# EAGLE library part LIS2HH12TR (library circuit_tree)
IC
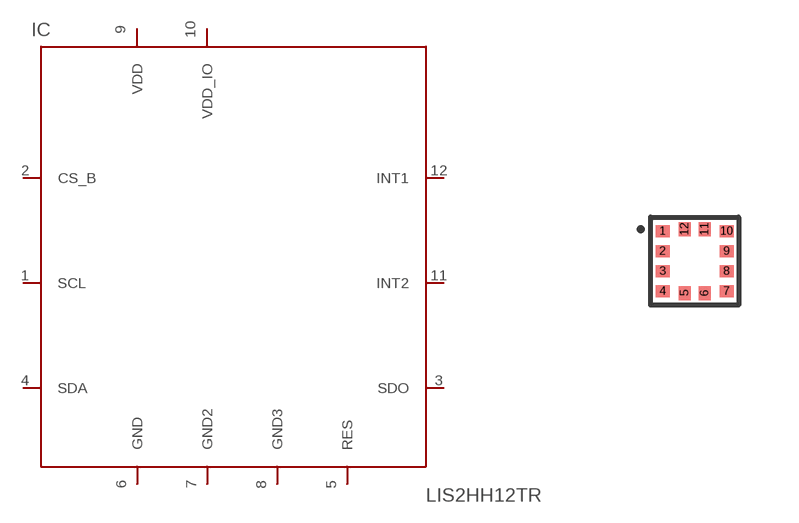
[diagram p0: symbol with the pads of LGA-12; footprint LGA-12]

Designator prefix IC

## LIS2HH12TR  [LGA-12]
1  SCL  pas
2  CS_B  pas
3  SDO  pas
4  SDA  pas
5  RES  pas
6  GND  pas
7  GND2  pas
8  GND3  pas
9  VDD  pas
10  VDD_IO  pas
11  INT2  pas
12  INT1  pas

## Footprint LGA-12 (pad centres in mm)
smd 0.35 x 0.3: 1 -0.8,0.75; 2 -0.8,0.25; 3 -0.8,-0.25; 4 -0.8,-0.75; 7 0.8,-0.75; 8 0.8,-0.25; 9 0.8,0.25; 10 0.8,0.75
smd 0.3 x 0.35: 5 -0.25,-0.8; 6 0.25,-0.8; 11 0.25,0.8; 12 -0.25,0.8